# EAGLE library part SP34063A_BOOST_REG (library jason_eagle6)
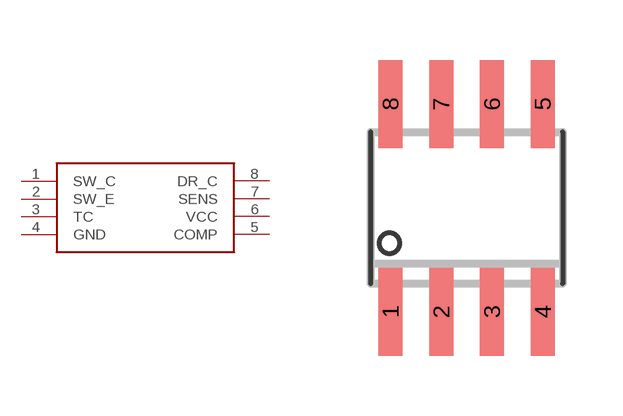
[diagram p16: symbol with the pads of SOIC8; footprint SOIC8]

Designator prefix -

## SP34063A_BOOST_REG  [SOIC8]
1  SW_C
2  SW_E
3  TC
4  GND
5  COMP
6  VCC
7  SENS
8  DR_C

## Footprint SOIC8 (pad centres in mm)
Small Outline IC
smd 0.6 x 2.2: 1 -1.905,-2.6; 2 -0.635,-2.6; 3 0.635,-2.6; 4 1.905,-2.6; 5 1.905,2.6; 6 0.635,2.6; 7 -0.635,2.6; 8 -1.905,2.6